# Altium footprint library CMWX1ZZABZ.PcbLib: 1 footprints
Each footprint in its own frame and in the unit in brackets; x right, y up, seen from the top. Pads: shape width x height; smd on the part's side, far side on the other; paste and mask are expansions set on the pad; w line width, h text height; cw(c..) or ccw(c..) is an arc to the next point about the centre after c.
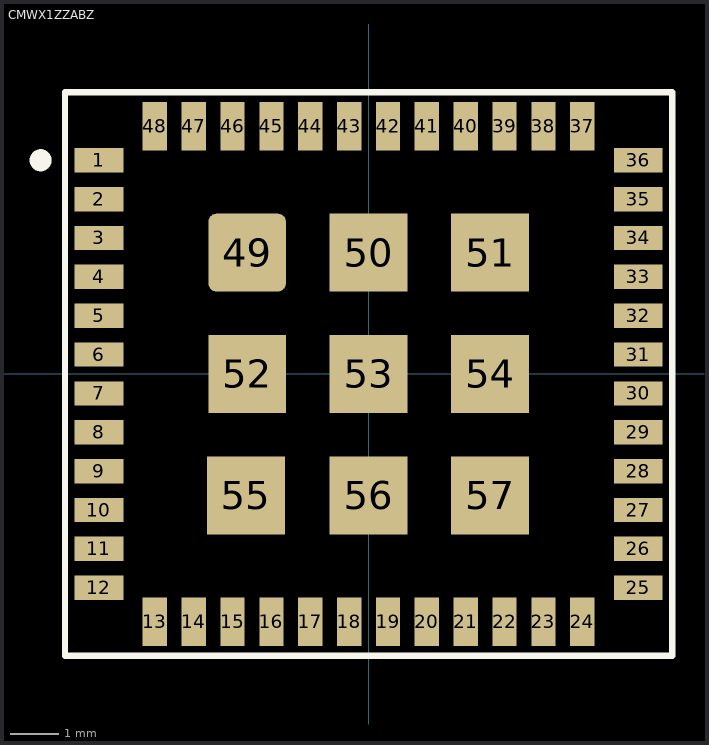
[diagram p0: the footprint, top view; thin cyan lines are the x and y axes]

## CMWX1ZZABZ [mm]
pads (57):
  rect 1x0.5 smd: 1(-5.55,4.4) 2(-5.55,3.6) 3(-5.55,2.8) 4(-5.55,2) 5(-5.55,1.2) 6(-5.55,0.4) 7(-5.55,-0.4) 8(-5.55,-1.2) 9(-5.55,-2) 10(-5.55,-2.8) 11(-5.55,-3.6) 12(-5.55,-4.4) 25(5.55,-4.4) 26(5.55,-3.6) 27(5.55,-2.8) 28(5.55,-2) 29(5.55,-1.2) 30(5.55,-0.4) 31(5.55,0.4) 32(5.55,1.2) 33(5.55,2) 34(5.55,2.8) 35(5.55,3.6) 36(5.55,4.4)
  rect 0.5x1 smd: 13(-4.4,-5.1) 14(-3.6,-5.1) 15(-2.8,-5.1) 16(-2,-5.1) 17(-1.2,-5.1) 18(-0.4,-5.1) 19(0.4,-5.1) 20(1.2,-5.1) 21(2,-5.1) 22(2.8,-5.1) 23(3.6,-5.1) 24(4.4,-5.1) 37(4.4,5.1) 38(3.6,5.1) 39(2.8,5.1) 40(2,5.1) 41(1.2,5.1) 42(0.4,5.1) 43(-0.4,5.1) 44(-1.2,5.1) 45(-2,5.1) 46(-2.8,5.1) 47(-3.6,5.1) 48(-4.4,5.1)
  rrect20% 1.6x1.6 smd: 49(-2.5,2.5)
  rect 1.6x1.6 smd: 50(0,2.5) 51(2.5,2.5) 52(-2.5,0) 53(0,0) 54(2.5,0) 55(-2.525,-2.5) 56(0,-2.5) 57(2.5,-2.5)
Top Overlay:
  circle w0.254: c-6.75,4.4 r0.1
  lines w0.127: -6.25,-5.8 -6.25,5.8 6.25,5.8 6.25,-5.8 -6.25,-5.8
3D body "CMWX1ZZABZ.STEP": height 1.76, standoff 0, extent -6.261,-5.803 6.239,5.797